# Altium footprint library Crydom.PcbLib: 2 footprints
Each footprint in its own frame and in the unit in brackets; x right, y up, seen from the top. Pads: shape width x height; smd on the part's side, far side on the other; paste and mask are expansions set on the pad; w line width, h text height; cw(c..) or ccw(c..) is an arc to the next point about the centre after c.
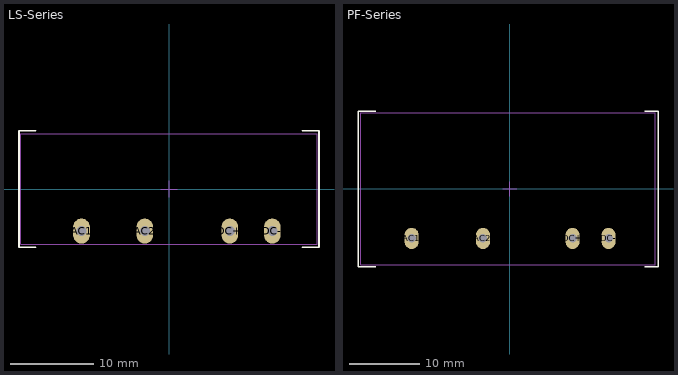
[diagram p0: the footprints below, top view; thin cyan lines are the x and y axes]

## LS-Series [mm] "Solid State Relay, AC Output, DC Control"
pads (4):
  oval 2x3 hole 1.2: AC1(-10.5,-5.05) AC2(-2.9,-5.05) DC+(7.3,-5.05) DC-(12.4,-5.05)
Top Overlay:
  lines w0.2: -16,-7 -18,-7 -18,7 -16,7 ; 16,-7 18,-7 18,7 16,7
Mechanical 15:
  lines w0.05: -17.8,-6.65 -17.8,6.65 17.8,6.65 17.8,-6.65 -17.8,-6.65
  lines w0.1: -1,0 1,0 ; 0,-1 0,1
3D body "100901.step": height 30.91, standoff -4.37, extent -17.662,-6.55 17.662,6.531

## PF-Series [mm] "Solid State Relay, AC Output, DC Control"
pads (4):
  oval 2x3 hole 1.2: AC1(-13.9,-7) AC2(-3.8,-7) DC+(8.9,-7) DC-(14,-7)
Top Overlay:
  lines w0.2: -19,-11 -21.5,-11 -21.5,11 -19,11 ; 19.1,-11 21,-11 21,11 19.1,11
Mechanical 15:
  lines w0.05: -21.1,-10.7 -21.1,10.8 20.6,10.8 20.6,-10.7 -21.1,-10.7
  lines w0.1: -1,0 1,0 ; 0,-1 0,1
3D body "101201.step": height 35.56, standoff -5.72, extent -21.053,-10.7 20.603,10.763